# Altium schematic symbol library MMBT4126.Schlib: 1 symbol
Pins are listed as number, name and electrical type; pins without a type are passive.

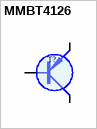
[diagram p0: symbol MMBT4126]

## MMBT4126
designator T?
SOT23    25V 0.2A 250MHz 4.5p(5V) 4dB
pins: 1 B, 2 E (oe), 3 C (oc)
1 alternate drawing of the same symbol